# Altium footprint library SOT-363-6.PcbLib: 1 footprints
Each footprint in its own frame and in the unit in brackets; x right, y up, seen from the top. Pads: shape width x height; smd on the part's side, far side on the other; paste and mask are expansions set on the pad; w line width, h text height; cw(c..) or ccw(c..) is an arc to the next point about the centre after c.
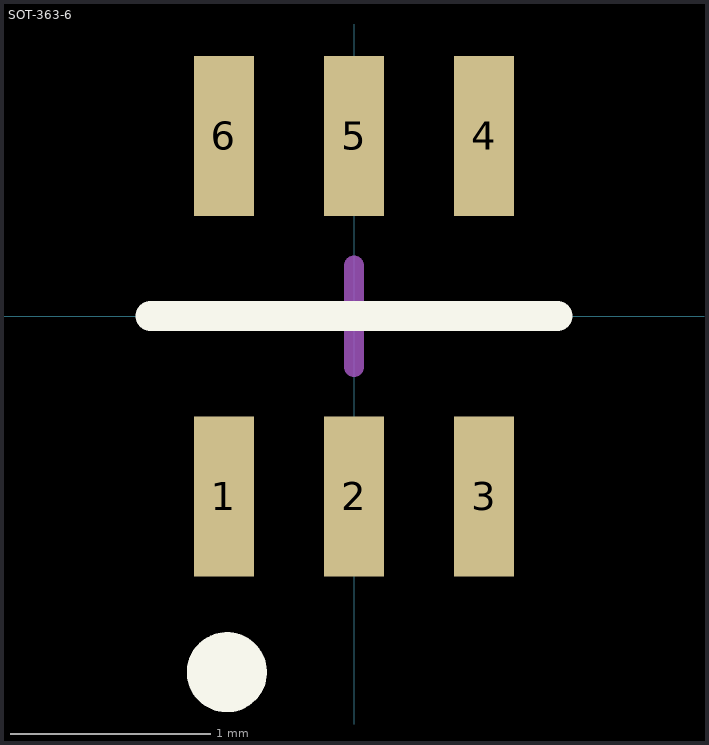
[diagram p0: the footprint, top view; thin cyan lines are the x and y axes]

## SOT-363-6 [mm]
height 2
pads (6):
  rect 0.3x0.8 smd mask+0.076: 1(-0.65,-0.9) 2(0,-0.9) 3(0.65,-0.9) 4(0.65,0.9) 5(0,0.9) 6(-0.65,0.9)
Top Overlay:
  circle w0.2: c-0.635,-1.778 r0.1
  lines w0.15: -1.016,0 1.016,0
Mechanical 15:
  lines w0.1: -0.254,0 0.254,0 ; 0,-0.254 0,0.254
3D body "SOT363-2.STEP": height 1.1, standoff 0, extent -1.1,-1.2 1.1,1.2